# Altium schematic symbol library Inductor.Schlib: 6 symbols
Pins are listed as number, name and electrical type; pins without a type are passive.

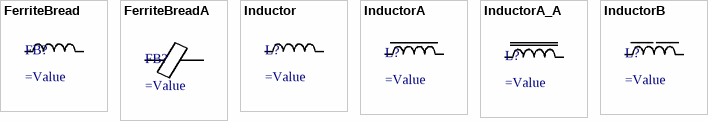
[diagram p0: symbols FerriteBread to InductorB]

## FerriteBread
designator FB?
Inductor
footprint 0603_IND
pins: 1, 2

## FerriteBreadA
designator FB?
Inductor
pins: 1, 2

## Inductor
designator L?
Inductor
footprint 0603_IND
pins: 1, 2

## InductorA
designator L?
Inductor with Ferrite Core
pins: 1, 2

## InductorA_A
designator L?
Inductor with Ferrite Core
pins: 1, 2

## InductorB
designator L?
Inductor with Ferrite Core
pins: 1, 2